# Altium schematic symbol library 0039300080.SchLib: 1 symbol
Pins are listed as number, name and electrical type; pins without a type are passive.

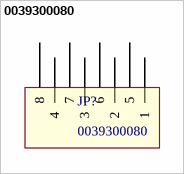
[diagram p0: symbol 0039300080]

## 0039300080
designator JP?
Manufacturer: Molex; PartDescription: CONN HEADER R/A 8POS 4.2MM; PartNumber: 0039300080; Package Type: 8 TH; Supplier 1: Digi-Key; Supplier Part Number 1: WM21354-ND
footprint 0039300080 (Molex Minifit 8 Pin)
pins: 1, 2, 3, 4, 5, 6, 7, 8